# EAGLE library part ESP32-WROOM-32 (library ESP32-WROOM-32)
WiFi Modules (802.11) SMD Module, ESP32-D0WDQ6, 32Mbits SPI flash, UART Mode Source: Datasheet <https://www.espressif.com/sites/default/files/documentation/esp32-wroom-32_datasheet_en.pdf>
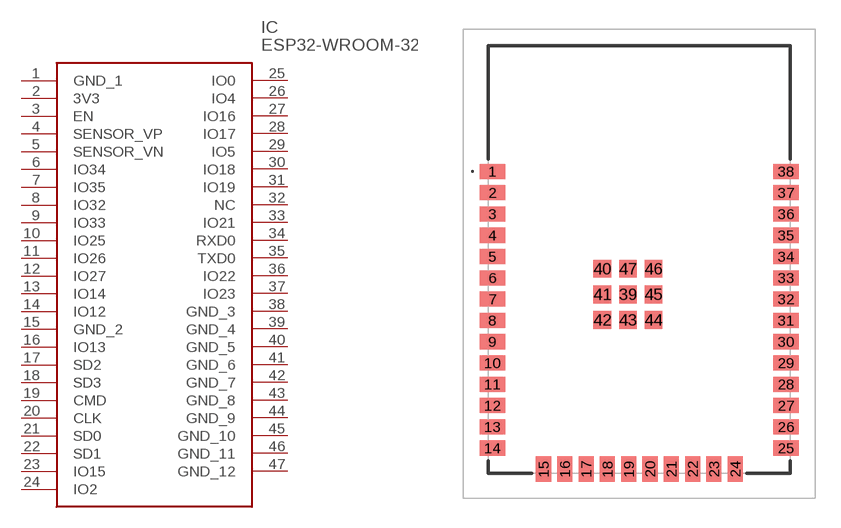
[diagram p0: symbol with the pads of ESP32WROOM32; footprint ESP32WROOM32]

Designator prefix IC

## ESP32-WROOM-32 (Description: WiFi Modules (802.11) SMD Module, ESP32-D0WDQ6, 32Mbits SPI flash, UART Mode; Height: 3.25mm; Manufacturer_Name: Espressif Systems; Manufacturer_Part_Number: ESP32-WROOM-32; Mouser_Part_Number: 356-ESP-WROOM-32)  [ESP32WROOM32]
1  GND_1
2  3V3
3  EN
4  SENSOR_VP
5  SENSOR_VN
6  IO34
7  IO35
8  IO32
9  IO33
10  IO25
11  IO26
12  IO27
13  IO14
14  IO12
15  GND_2
16  IO13
17  SD2
18  SD3
19  CMD
20  CLK
21  SD0
22  SD1
23  IO15
24  IO2
25  IO0
26  IO4
27  IO16
28  IO17
29  IO5
30  IO18
31  IO19
32  NC  nc
33  IO21
34  RXD0
35  TXD0
36  IO22
37  IO23
38  GND_3
39  GND_4
40  GND_5
41  GND_6
42  GND_7
43  GND_8
44  GND_9
45  GND_10
46  GND_11
47  GND_12

## Footprint ESP32WROOM32 (pad centres in mm)
ESP32-WROOM-32-1
smd 1.5 x 0.9: 1 -8.75,5.51; 2 -8.75,4.24; 3 -8.75,2.97; 4 -8.75,1.7; 5 -8.75,0.43; 6 -8.75,-0.84; 7 -8.75,-2.11; 8 -8.75,-3.38; 9 -8.75,-4.65; 10 -8.75,-5.92; 11 -8.75,-7.19; 12 -8.75,-8.46; 13 -8.75,-9.73; 14 -8.75,-11; 25 8.75,-11; 26 8.75,-9.73; 27 8.75,-8.46; 28 8.75,-7.19; 29 8.75,-5.92; 30 8.75,-4.65; 31 8.75,-3.38; 32 8.75,-2.11; 33 8.75,-0.84; 34 8.75,0.43; 35 8.75,1.7; 36 8.75,2.97; 37 8.75,4.24; 38 8.75,5.51
smd 0.9 x 1.5: 15 -5.71,-12.25; 16 -4.44,-12.25; 17 -3.17,-12.25; 18 -1.9,-12.25; 19 -0.63,-12.25; 20 0.64,-12.25; 21 1.91,-12.25; 22 3.18,-12.25; 23 4.45,-12.25; 24 5.72,-12.25
smd 1.05 x 1.05: 39 -0.68,-1.83; 40 -2.205,-0.305; 41 -2.205,-1.83; 42 -2.205,-3.355; 43 -0.68,-3.355; 44 0.845,-3.355; 45 0.845,-1.83; 46 0.845,-0.305; 47 -0.68,-0.305